# Altium schematic symbol library Klema PCB_15_A.SchLib: 1 symbol
Pins are listed as number, name and electrical type; pins without a type are passive.

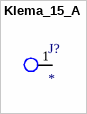
[diagram p0: symbol Klema_15_A]

## Klema_15_A
designator J?
footprint Klema_PCB_15A
footprint Klema_100A
footprint Connector_6mm
pins: 1 0